# Altium schematic symbol library adc.SchLib: 2 symbols
Pins are listed as number, name and electrical type; pins without a type are passive.

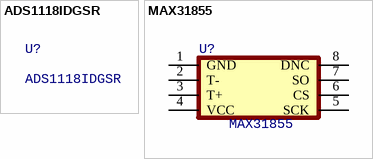
[diagram p0: symbols ADS1118IDGSR to MAX31855]

## ADS1118IDGSR
designator U?
TI ADC

## MAX31855
designator U?
Thermocouple ADC
footprint _SOIC_E200_8
pins: 1 GND, 2 T-, 3 T+, 4 VCC, 5 SCK, 6 CS, 7 SO, 8 DNC